# EAGLE library part MAX30205 (library meng-plant-raman)
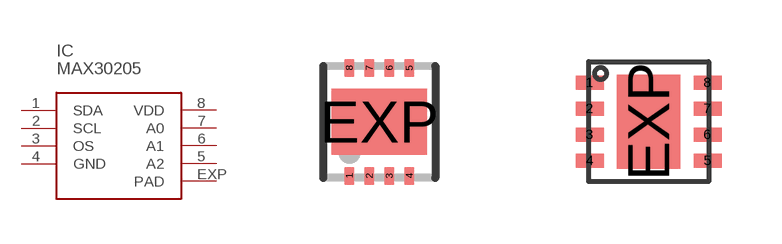
[diagram p0: symbol with the pads of DFN8-3X3; footprints DFN8-3X3, TDFN-08]

Designator prefix IC

## MAX30205DFN (VALUE: MAX30205)  [DFN8-3X3]
1  SDA
2  SCL
3  OS
4  GND
5  A2
6  A1
7  A0
8  VDD
EXP  PAD

## MAX30205MTA+  [TDFN-08]
Pads as for DFN8-3X3

## Footprint DFN8-3X3 (pad centres in mm)
DD Package 8-Lead Plastic DFN (3mm × 3mm) Source: http://cds.linear.com/docs/Datasheet/623012fb.pdf
smd 0.25 x 0.45: 1 -0.75,-1.35; 2 -0.25,-1.35; 3 0.25,-1.35; 4 0.75,-1.35; 5 0.75,1.35; 6 0.25,1.35; 7 -0.25,1.35; 8 -0.75,1.35
smd 2.38 x 1.65: EXP 0,0

## Footprint TDFN-08 (pad centres in mm)
smd 0.7 x 0.35: 1 -1.475,0.975; 2 -1.475,0.325; 3 -1.475,-0.325; 4 -1.475,-0.975; 5 1.475,-0.975; 6 1.475,-0.325; 7 1.475,0.325; 8 1.475,0.975
smd 1.58 x 2.35: EXP 0,0